# Altium schematic symbol library 1655.SchLib: 1 symbol
Pins are listed as number, name and electrical type; pins without a type are passive.

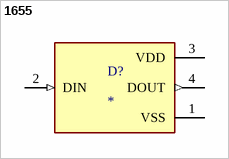
[diagram p0: symbol 1655]

## 1655
designator D?
Ws2812b 5050 Rgb Led With Integrated Driver Chip Pack Of 10; MP: 1655; Package: None; Price: None; Availability: Unavailable; Value: *
footprint LED_1655
pins: 1 VSS (power), 2 DIN (in), 3 VDD (power), 4 DOUT (out)